# Altium schematic symbol library CC0603KRX5R8BB105.SchLib: 1 symbol
Pins are listed as number, name and electrical type; pins without a type are passive.

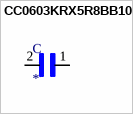
[diagram p0: symbol CC0603KRX5R8BB105]

## CC0603KRX5R8BB105
designator C
ÐšÐµÑ€Ð°Ð¼Ð¸Ñ‡ÐµÑÐºÐ¸Ð¹ ÐºÐ¾Ð½Ð´ÐµÐ½ÑÐ°Ñ‚Ð¾Ñ€ 1 Ð¼ÐºÐ¤ Â± 10% 25 Ð’ X5R 0603 _1608 Ð¼ÐµÑ‚Ñ€Ð¸Ñ‡ÐµÑÐºÐ¸Ñ…_; MF: Yageo; MP: CC0603KRX5R8BB105; SnapEDA_Link: https://www.snapeda.com/parts/CC0603KRX5R8BB105/Yageo/view-part/1820893/?ref=snap; Package: 0603 Yageo; Price: None; Value: *; Availability: Unavailable
footprint CAPC1608X90
pins: 1, 2